# EAGLE library part TPS852 (library ashield)
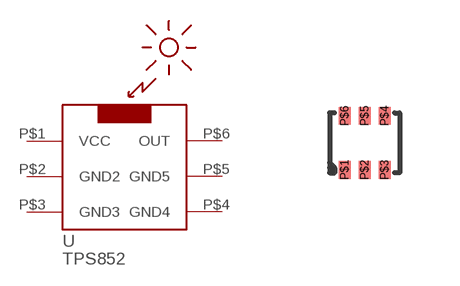
[diagram p8: symbol with the pads of TPS852; footprint TPS852]

Designator prefix -

## TPS852  [TPS852]
P$1  VCC
P$2  GND2
P$3  GND3
P$4  GND4
P$5  GND5
P$6  OUT

## Footprint TPS852 (pad centres in mm)
smd 0.3 x 0.45: P$1 -0.5,-0.675; P$2 0,-0.675; P$3 0.5,-0.675; P$4 0.5,0.675; P$5 0,0.675; P$6 -0.5,0.675